# Altium schematic symbol library LDO.SchLib: 16 symbols
Pins are listed as number, name and electrical type; pins without a type are passive.

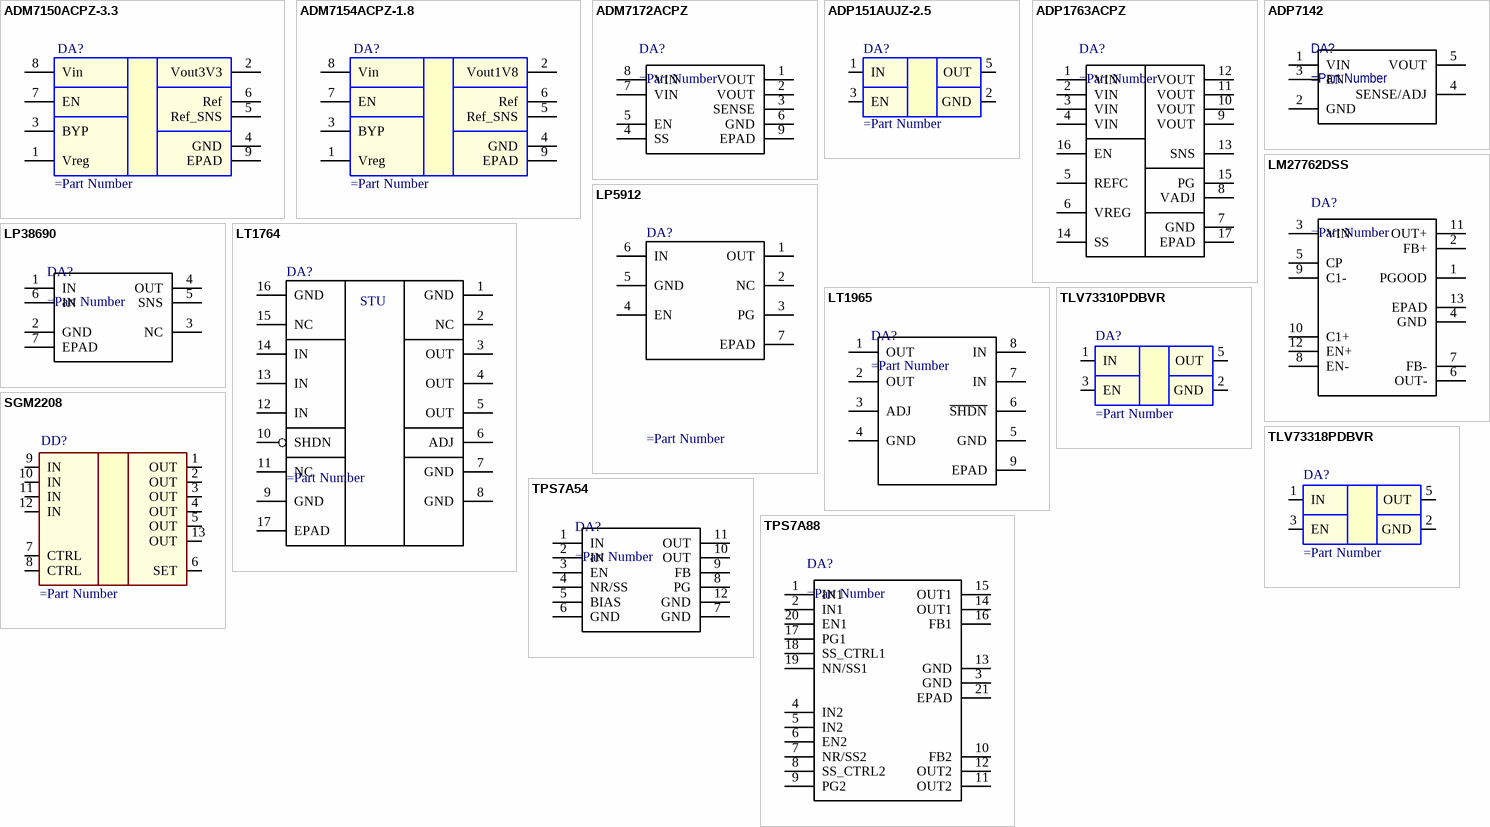
[diagram p0: symbols ADM7150ACPZ-3.3 to TPS7A88]

## ADM7150ACPZ-3.3
designator DA?
pins: 1 Vreg, 2 Vout3V3, 3 BYP, 4 GND (power), 5 Ref_SNS, 6 Ref, 7 EN, 8 Vin, 9 EPAD (power)

## ADM7154ACPZ-1.8
designator DA?
pins: 1 Vreg, 2 Vout1V8, 3 BYP, 4 GND (power), 5 Ref_SNS, 6 Ref, 7 EN, 8 Vin, 9 EPAD (power)

## ADM7172ACPZ
designator DA?
pins: 1 VOUT, 2 VOUT, 3 SENSE, 4 SS, 5 EN, 6 GND, 7 VIN, 8 VIN, 9 EPAD

## ADP151AUJZ-2.5
designator DA?
pins: 1 IN, 2 GND, 3 EN, 5 OUT

## ADP1763ACPZ
designator DA?
pins: 1 VIN, 2 VIN, 3 VIN, 4 VIN, 5 REFC, 6 VREG, 7 GND, 8 VADJ, 9 VOUT, 10 VOUT, 11 VOUT, 12 VOUT, 13 SNS, 14 SS, 15 PG, 16 EN, 17 EPAD

## ADP7142
designator DA?
pins: 1 VIN, 2 GND, 3 EN, 4 SENSE/ADJ, 5 VOUT

## LM27762DSS
designator DA?
pins: 1 PGOOD, 2 FB+, 3 VIN, 4 GND, 5 CP, 6 OUT-, 7 FB-, 8 EN-, 9 C1-, 10 C1+, 11 OUT+, 12 EN+, 13 EPAD

## LP5912
designator DA?
footprint WSON-6 (Small Outline No-Lead (SON with Tab), 0.65 mm pitch; 6 pin, 2.00 mm L X 2.00 mm W X 0.80 mm H body)
pins: 1 OUT, 2 NC, 3 PG, 4 EN, 5 GND, 6 IN, 7 EPAD

## LP38690
designator DA?
pins: 1 IN, 2 GND, 3  NC, 4 OUT, 5 SNS, 6 IN, 7 EPAD

## LT1764
designator DA?
pins: 1 GND, 2 NC, 3 OUT, 4 OUT, 5 OUT, 6 ADJ, 7 GND, 8 GND, 9 GND, 10 SHDN, 11 NC, 12 IN, 13 IN, 14 IN, 15 NC, 16 GND, 17 EPAD
text: STU

## LT1965
designator DA?
pins: 1 OUT, 2 OUT, 3 ADJ, 4 GND, 5 GND, 6 ~{SHDN}, 7 IN, 8 IN, 9 EPAD

## SGM2208
designator DD?
pins: 1 OUT, 2 OUT, 3 OUT, 4 OUT, 5 OUT, 6 SET, 7 CTRL, 8 CTRL, 9 IN, 10 IN, 11 IN, 12 IN, 13 OUT

## TLV73310PDBVR
designator DA?
pins: 1 IN, 2 GND, 3 EN, 5 OUT

## TLV73318PDBVR
designator DA?
pins: 1 IN, 2 GND, 3 EN, 5 OUT

## TPS7A54
designator DA?
pins: 1 IN, 2 IN, 3 EN, 4 NR/SS, 5 BIAS, 6 GND, 7 GND, 8 PG, 9 FB, 10 OUT, 11 OUT, 12 GND

## TPS7A88
designator DA?
pins: 1 IN1, 2 IN1, 3 GND, 4 IN2, 5 IN2, 6 EN2, 7 NR/SS2, 8 SS_CTRL2, 9 PG2, 10 FB2, 11 OUT2, 12 OUT2, 13 GND, 14 OUT1, 15 OUT1, 16 FB1, 17 PG1, 18 SS_CTRL1, 19 NN/SS1, 20 EN1, 21 EPAD